# Altium schematic symbol library AD7606C-16.SchLib: 1 symbol
Pins are listed as number, name and electrical type; pins without a type are passive.

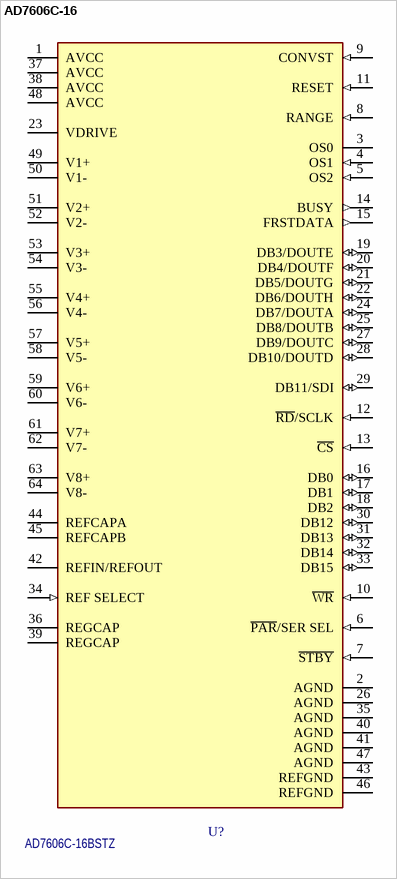
[diagram p0: symbol AD7606C-16]

## AD7606C-16
designator U?, comment AD7606C-16BSTZ
8-Channel DAS with 16-Bit, 1 MSPS Bipolar / Input, Simultaneous Sampling ADC; Потребление, Вт: 0.05; RoHS Compliant: Yes; Назначение: 8-Channel DAS with 16-Bit, 1 MSPS Bipolar; Наименование: AD7606C-16BSTZ
footprint ST-64-2
pins: 1 AVCC (power), 2 AGND (power), 3 OS0, 4 OS1 (in), 5 OS2 (in), 6 ~{PAR}/SER SEL (in), 7 ~{STBY} (in), 8 RANGE (in), 9 CONVST (in), 10 ~{WR} (in), 11 RESET (in), 12 ~{RD}/SCLK (in), 13 ~{CS} (in), 14 BUSY (out), 15 FRSTDATA (out), 16 DB0 (io), 17 DB1 (io), 18 DB2 (io), 19 DB3/DOUTE (io), 20 DB4/DOUTF (io), 21 DB5/DOUTG (io), 22 DB6/DOUTH (io), 23 VDRIVE (power), 24 DB7/DOUTA (io), 25 DB8/DOUTB (io), 26 AGND (power), 27 DB9/DOUTC (io), 28 DB10/DOUTD (io), 29 DB11/SDI (io), 30 DB12 (io), 31 DB13 (io), 32 DB14 (io), 33 DB15 (io), 34 REF SELECT (in), 35 AGND (power), 36 REGCAP (power), 37 AVCC (power), 38 AVCC (power), 39 REGCAP (power), 40 AGND (power), 41 AGND (power), 42 REFIN/REFOUT, 43 REFGND (power), 44 REFCAPA, 45 REFCAPB, 46 REFGND (power), 47 AGND (power), 48 AVCC (power), 49 V1+, 50 V1-, 51 V2+, 52 V2-, 53 V3+, 54 V3-, 55 V4+, 56 V4-, 57 V5+, 58 V5-, 59 V6+, 60 V6-, 61 V7+, 62 V7-, 63 V8+, 64 V8-